# Altium footprint library LEDCube1.PcbLib: 17 footprints (part 1 of 2)
Each footprint in its own frame and in the unit in brackets; x right, y up, seen from the top. Pads: shape width x height; smd on the part's side, far side on the other; paste and mask are expansions set on the pad; w line width, h text height; cw(c..) or ccw(c..) is an arc to the next point about the centre after c.
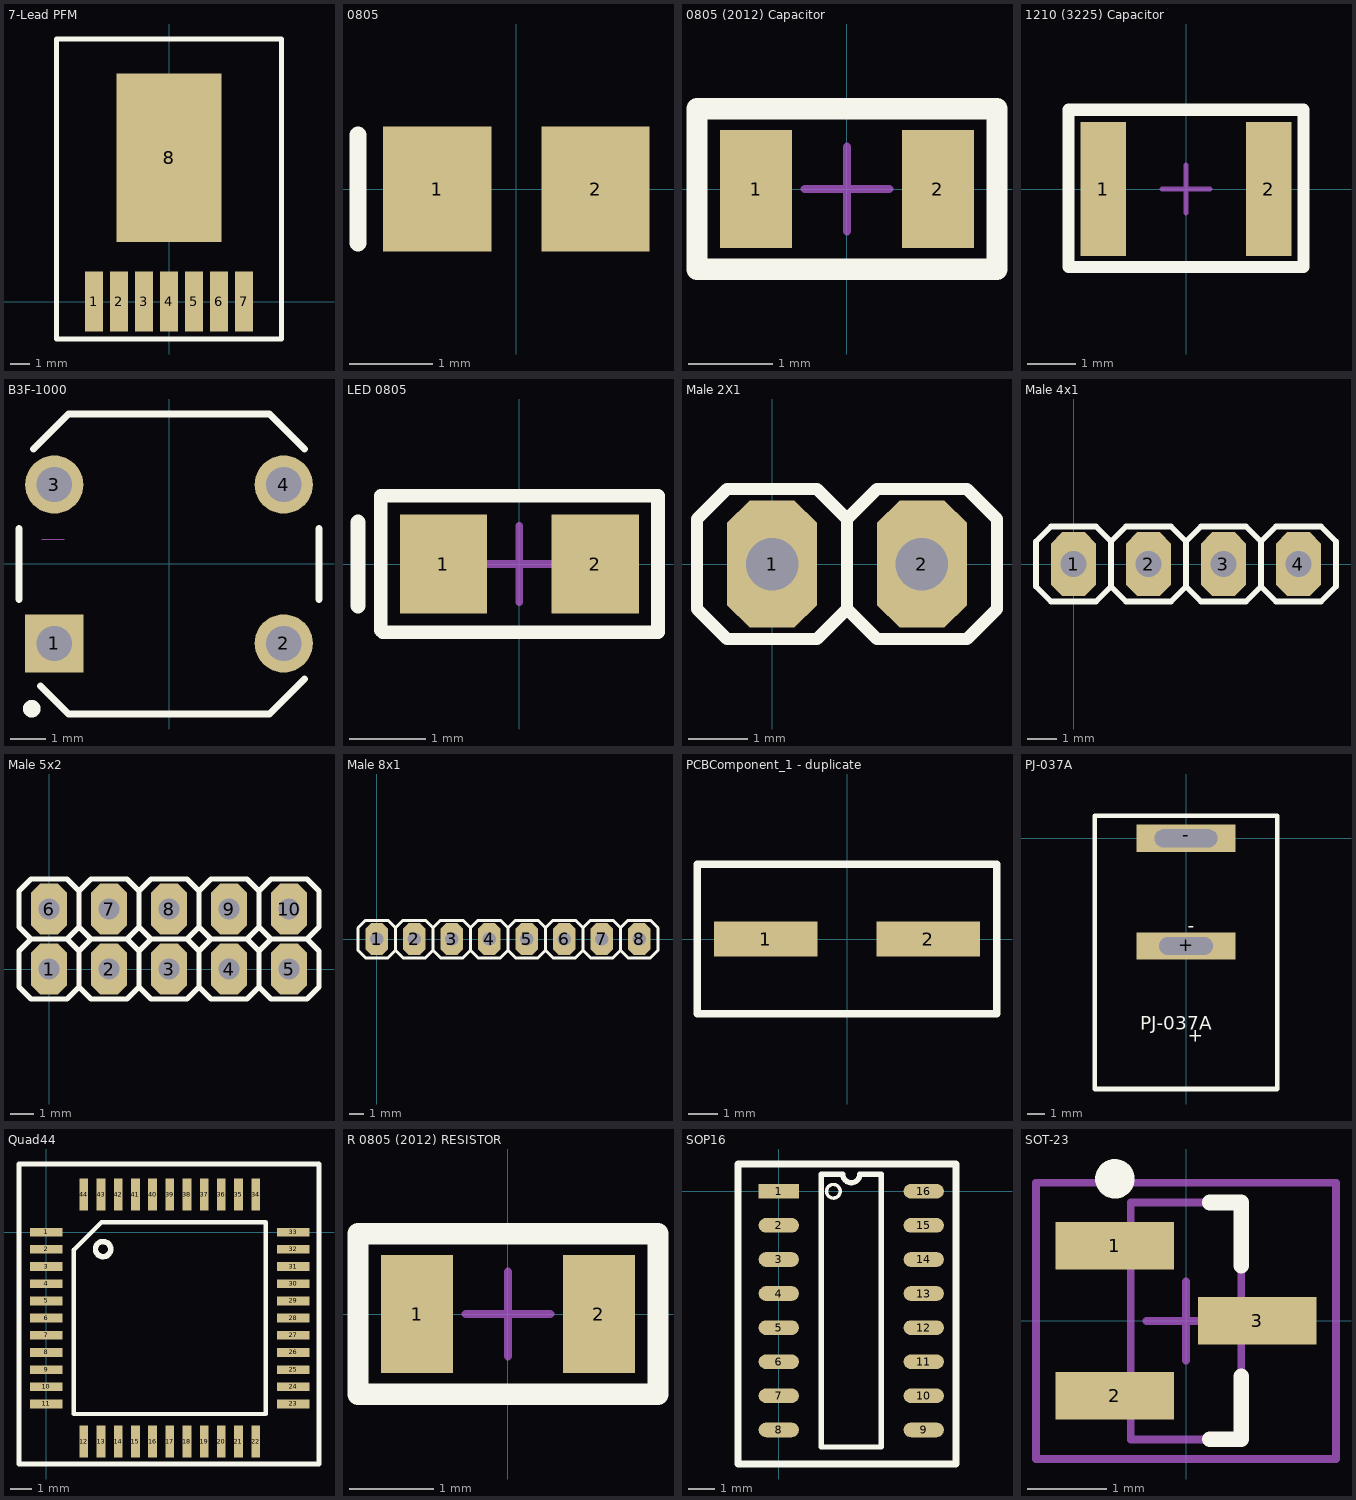
[diagram p0: the footprints below, top view; thin cyan lines are the x and y axes]

## 7-Lead PFM [mm]
pads (8):
  rect 0.89x3.06 smd: 1(-3.81,0) 2(-2.54,0) 3(-1.27,0) 4(0,0) 5(1.27,0) 6(2.54,0) 7(3.81,0)
  rect 5.35x8.54 smd: 8(0,7.305)
Top Overlay:
  lines w0.254: -5.715,-1.905 -5.715,13.335 5.715,13.335 5.715,-1.905 -5.715,-1.905
3D body: height 4.57, standoff 0, extent -5.08,-1.173 5.08,12.603

## 0805 [mm]
pads (2):
  rect 1.3x1.5 smd: 1(-0.95,0) 2(0.95,0)
Top Overlay:
  lines w0.2: -1.9,-0.65 -1.9,0.65

## 0805 (2012) Capacitor [mm]
pads (2):
  rect 0.85x1.4 smd: 1(-1.075,0) 2(1.075,0)
Top Overlay:
  lines w0.254: -1.775,-0.95 -1.775,0.95 1.775,0.95 1.775,-0.95 -1.775,-0.95
Mechanical 15:
  lines w0.1: -0.5,0 0.5,0 ; 0,-0.5 0,0.5 ; -1.775,-0.95 -1.775,0.95 1.775,0.95 1.775,-0.95 -1.775,-0.95
3D body: height 0.85, standoff 0, extent 0.813,-0.65 1.188,0.65
3D body: height 0.85, standoff 0, extent -1.1,-0.635 1.1,0.635
3D body: height 0.85, standoff 0, extent -1.188,-0.65 -0.813,0.65

## 1210 (3225) Capacitor [mm]
pads (2):
  rect 0.95x2.8 smd: 1(-1.725,0) 2(1.725,0)
Top Overlay:
  lines w0.254: -2.45,-1.625 -2.45,1.65 2.45,1.65 2.45,-1.625 -2.45,-1.625
Mechanical 15:
  lines w0.1: -0.5,0 0.5,0 ; 0,-0.5 0,0.5 ; -2.45,-1.65 2.45,-1.65 2.45,1.65 -2.45,1.65 -2.45,-1.65
3D body: height 1.81, standoff 0, extent 1.075,-1.425 1.825,1.425
3D body: height 1.81, standoff 0, extent -1.825,-1.425 -1.075,1.425
3D body: height 1.8, standoff 0, extent -1.8,-1.4 1.8,1.4

## B3F-1000 [mm]
pads (4):
  rect 1.65x1.65 hole 1: 1(-3.25,-2.25)
  round 1.65 hole 1: 2(3.25,-2.25) 3(-3.25,2.25) 4(3.25,2.25)
Top Overlay:
  circle w0.25: c-3.891,-4.1 r0.125
  lines w0.2: -4.25,-1 -4.25,1 ; -3.837,3.263 -2.85,4.25 2.85,4.25 3.837,3.263 ; -3.638,-3.458 -2.85,-4.25 2.85,-4.25 3.837,-3.263 ; 4.25,-1 4.25,1
Mechanical 1:
  lines w0: -3.6,0.7 -2.97,0.7
3D body: height 4.3, standoff -3.5, extent -3.814,-3 3.886,3

## LED 0805 [mm]
pads (2):
  rect 1.15x1.3 smd: 1(-1,0) 2(1,0)
Top Overlay:
  lines w0.178: -1.825,-0.875 -1.825,0.9 1.825,0.9 1.825,-0.9 -1.8,-0.9 -1.825,-0.875
  lines w0.2: -2.125,-0.55 -2.125,0.55
Mechanical 15:
  lines w0.1: -0.5,0 0.5,0 ; 0,-0.5 0,0.5 ; -1.825,-0.9 -1.825,0.9 1.825,0.9 1.825,-0.9 -1.825,-0.9
3D body: height 0.8, standoff 0, extent -0.7,-0.575 0.675,0.575
3D body: height 0.3, standoff 0, extent -1,-0.625 1,0.625

## Male 2X1 [mil]
pads (2):
  oct 60x85 hole 35: 1(0,0) 2(100,0)
Top Overlay:
  lines w8: -30,50 30,50 ; -30,50 -50,30 -50,-30 -30,-50 30,-50 50,-30 ; -30,50 30,50 ; 30,50 50,30 ; 50,-30 70,-50 130,-50 150,-30 ; 50,-30 50,30 ; 50,-30 50,30 ; 50,-30 50,30 ; 50,30 70,50 ; 70,50 130,50 ; 70,50 130,50 ; 130,50 150,30 ; 150,-30 150,30 ; 150,-30 150,30
3D body: height 460, standoff -120, extent 90,-10 110,10
3D body: height 460, standoff -120, extent -10,-10 10,10
3D body: height 100, standoff 0, extent 49.98,-50.02 150.02,50.02
3D body: height 100, standoff 0, extent -50.02,-50.02 50.02,50.02

## Male 4x1 [mil]
pads (4):
  oct 60x85 hole 35: 1(0,0) 2(100,0) 3(200,0) 4(300,0)
Top Overlay:
  lines w8: -30,50 30,50 ; -30,50 -50,30 -50,-30 -30,-50 30,-50 50,-30 ; -30,50 30,50 ; 30,50 50,30 ; 50,-30 70,-50 130,-50 150,-30 ; 50,-30 50,30 ; 50,-30 50,30 ; 50,-30 50,30 ; 50,30 70,50 ; 70,50 130,50 ; 70,50 130,50 ; 130,50 150,30 ; 150,-30 170,-50 230,-50 250,-30 ; 150,-30 150,30 ; 150,-30 150,30 ; 150,-30 150,30 ; 150,30 170,50 ; 170,50 230,50 ; 170,50 230,50 ; 230,50 250,30 ; 250,-30 270,-50 330,-50 350,-30 ; 250,-30 250,30 ; 250,-30 250,30 ; 250,-30 250,30 ; 250,30 270,50 ; 270,50 330,50 ; 270,50 330,50 ; 330,50 350,30 ; 350,-30 350,30 ; 350,-30 350,30
3D body: height 460, standoff -120, extent 290,-10 310,10
3D body: height 460, standoff -120, extent 190,-10 210,10
3D body: height 460, standoff -120, extent 90,-10 110,10
3D body: height 460, standoff -120, extent -10,-10 10,10
3D body: height 100, standoff 0, extent 249.98,-50.02 350.02,50.02
3D body: height 100, standoff 0, extent 149.98,-50.02 250.02,50.02
3D body: height 100, standoff 0, extent 49.98,-50.02 150.02,50.02
3D body: height 100, standoff 0, extent -50.02,-50.02 50.02,50.02

## Male 5x2 [mil]
pads (10):
  oct 60x85 hole 35: 1(0,0) 2(100,0) 3(200,0) 4(300,0) 5(400,0) 6(0,100) 7(100,100) 8(200,100) 9(300,100) 10(400,100)
Top Overlay:
  lines w8: -30,50 -50,70 -50,130 -30,150 ; -30,50 30,50 ; -30,50 30,50 ; -30,50 -50,30 -50,-30 -30,-50 30,-50 50,-30 ; -30,50 30,50 ; -30,150 30,150 ; -30,150 30,150 ; 30,50 50,70 ; 30,50 50,30 ; 30,150 50,130 ; 50,-30 70,-50 130,-50 150,-30 ; 50,-30 50,30 ; 50,-30 50,30 ; 50,-30 50,30 ; 50,30 70,50 ; 50,70 70,50 ; 50,70 50,130 ; 50,70 50,130 ; 50,70 50,130 ; 50,130 70,150 ; 70,50 130,50 ; 70,50 130,50 ; 70,50 130,50 ; 70,150 130,150 ; 70,150 130,150 ; 130,50 150,70 ; 130,50 150,30 ; 130,150 150,130 ; 150,-30 170,-50 230,-50 250,-30 ; 150,-30 150,30 ; 150,-30 150,30 ; 150,-30 150,30 ; 150,30 170,50 ; 150,70 170,50 ; 150,70 150,130 ; 150,70 150,130 ; 150,70 150,130 ; 150,130 170,150 ; 170,50 230,50 ; 170,50 230,50 ; 170,50 230,50 ; 170,150 230,150 ; 170,150 230,150 ; 230,50 250,70 ; 230,50 250,30 ; 230,150 250,130 ; 250,-30 270,-50 330,-50 350,-30 ; 250,-30 250,30 ; 250,-30 250,30 ; 250,-30 250,30 ; 250,30 270,50 ; 250,70 270,50 ; 250,70 250,130 ; 250,70 250,130 ; 250,70 250,130 ; 250,130 270,150 ; 270,50 330,50 ; 270,50 330,50 ; 270,50 330,50 ; 270,150 330,150 ; 270,150 330,150 ; 330,50 350,70 ; 330,50 350,30 ; 330,150 350,130 ; 350,-30 370,-50 430,-50 450,-30 ; 350,-30 350,30 ; 350,-30 350,30 ; 350,-30 350,30 ; 350,30 370,50 ; 350,70 370,50 ; 350,70 350,130 ; 350,70 350,130 ; 350,70 350,130 ; 350,130 370,150 ; 370,50 430,50 ; 370,50 430,50 ; 370,50 430,50 ; 370,150 430,150 ; 370,150 430,150 ; 430,50 450,70 ; 430,50 450,30 ; 430,150 450,130 ; 450,-30 450,30 ; 450,-30 450,30 ; 450,70 450,130 ; 450,70 450,130
3D body: height 460, standoff -120, extent 390,90 410,110
3D body: height 460, standoff -120, extent 290,90 310,110
3D body: height 460, standoff -120, extent 190,90 210,110
3D body: height 460, standoff -120, extent 90,90 110,110
3D body: height 460, standoff -120, extent -10,90 10,110
3D body: height 460, standoff -120, extent 390,-10 410,10
3D body: height 460, standoff -120, extent 290,-10 310,10
3D body: height 460, standoff -120, extent 190,-10 210,10
3D body: height 460, standoff -120, extent 90,-10 110,10
3D body: height 460, standoff -120, extent -10,-10 10,10
3D body: height 100, standoff 0, extent 349.98,49.98 450.02,150.02
3D body: height 100, standoff 0, extent 249.98,49.98 350.02,150.02
3D body: height 100, standoff 0, extent 149.98,49.98 250.02,150.02
3D body: height 100, standoff 0, extent 49.98,49.98 150.02,150.02
3D body: height 100, standoff 0, extent -50.02,49.98 50.02,150.02
3D body: height 100, standoff 0, extent 349.98,-50.02 450.02,50.02
3D body: height 100, standoff 0, extent 249.98,-50.02 350.02,50.02
3D body: height 100, standoff 0, extent 149.98,-50.02 250.02,50.02
3D body: height 100, standoff 0, extent 49.98,-50.02 150.02,50.02
3D body: height 100, standoff 0, extent -50.02,-50.02 50.02,50.02

## Male 8x1 [mil]
pads (8):
  oct 60x85 hole 35: 1(0,0) 2(100,0) 3(200,0) 4(300,0) 5(400,0) 6(500,0) 7(600,0) 8(700,0)
Top Overlay:
  lines w8: -30,50 30,50 ; -30,50 -50,30 -50,-30 -30,-50 30,-50 50,-30 ; -30,50 30,50 ; 30,50 50,30 ; 50,-30 70,-50 130,-50 150,-30 ; 50,-30 50,30 ; 50,-30 50,30 ; 50,-30 50,30 ; 50,30 70,50 ; 70,50 130,50 ; 70,50 130,50 ; 130,50 150,30 ; 150,-30 170,-50 230,-50 250,-30 ; 150,-30 150,30 ; 150,-30 150,30 ; 150,-30 150,30 ; 150,30 170,50 ; 170,50 230,50 ; 170,50 230,50 ; 230,50 250,30 ; 250,-30 270,-50 330,-50 350,-30 ; 250,-30 250,30 ; 250,-30 250,30 ; 250,-30 250,30 ; 250,30 270,50 ; 270,50 330,50 ; 270,50 330,50 ; 330,50 350,30 ; 350,-30 370,-50 430,-50 450,-30 ; 350,-30 350,30 ; 350,-30 350,30 ; 350,-30 350,30 ; 350,30 370,50 ; 370,50 430,50 ; 370,50 430,50 ; 430,50 450,30 ; 450,-30 470,-50 530,-50 550,-30 ; 450,-30 450,30 ; 450,-30 450,30 ; 450,-30 450,30 ; 450,30 470,50 ; 470,50 530,50 ; 470,50 530,50 ; 530,50 550,30 ; 550,-30 570,-50 630,-50 650,-30 ; 550,-30 550,30 ; 550,-30 550,30 ; 550,-30 550,30 ; 550,30 570,50 ; 570,50 630,50 ; 570,50 630,50 ; 630,50 650,30 ; 650,-30 670,-50 730,-50 750,-30 ; 650,-30 650,30 ; 650,-30 650,30 ; 650,-30 650,30 ; 650,30 670,50 ; 670,50 730,50 ; 670,50 730,50 ; 730,50 750,30 ; 750,-30 750,30 ; 750,-30 750,30
3D body: height 100, standoff 0, extent 649.98,-50.02 750.02,50.02
3D body: height 100, standoff 0, extent 549.98,-50.02 650.02,50.02
3D body: height 100, standoff 0, extent 449.98,-50.02 550.02,50.02
3D body: height 100, standoff 0, extent 349.98,-50.02 450.02,50.02
3D body: height 100, standoff 0, extent 249.98,-50.02 350.02,50.02
3D body: height 100, standoff 0, extent 149.98,-50.02 250.02,50.02
3D body: height 100, standoff 0, extent 49.98,-50.02 150.02,50.02
3D body: height 100, standoff 0, extent -50.02,-50.02 50.02,50.02
3D body: height 460, standoff -120, extent 690,-10 710,10
3D body: height 460, standoff -120, extent 590,-10 610,10
3D body: height 460, standoff -120, extent 490,-10 510,10
3D body: height 460, standoff -120, extent 390,-10 410,10
3D body: height 460, standoff -120, extent 290,-10 310,10
3D body: height 460, standoff -120, extent 190,-10 210,10
3D body: height 460, standoff -120, extent 90,-10 110,10
3D body: height 460, standoff -120, extent -10,-10 10,10

## PCBComponent_1 - duplicate [mm]
pads (2):
  rect 3.5x1.2 smd: 1(-2.75,0) 2(2.75,0)
Top Overlay:
  lines w0.254: -5.08,-2.54 -5.08,2.54 5.08,2.54 5.08,-2.54 -5.08,-2.54
3D body: height 2.3, standoff 0, extent -3.825,-2.083 3.775,2.017

## PJ-037A [mm]
pads (2):
  rect 5.5x1.524 hole 1 slot 3 at 0 deg: +(0,-6)
  rect 5.5x1.524 hole 1 slot 3.5 at 0 deg: -(0,0)
Top Overlay:
  lines w0.254: -5.08,-13.97 5.08,-13.97 5.08,1.27 -5.08,1.27 -5.08,-13.97
  text "PJ-037A" at -2.54,-10.668 h0.76
  text "-" at 0.102,-5.232 h0.76
  text "+" at 0.102,-11.328 h0.76
3D body: height 11, standoff -3.5, extent -4.504,-13.752 4.496,0.748

## Quad44 [mm]
pads (44):
  rect 1.5x0.406 smd: 1(0,0) 2(0,-0.8) 3(0,-1.6) 4(0,-2.4) 5(0,-3.2) 6(0,-4) 7(0,-4.8) 8(0,-5.6) 9(0,-6.4) 10(0,-7.2) 11(0,-8) 23(11.5,-8) 24(11.5,-7.2) 25(11.5,-6.4) 26(11.5,-5.6) 27(11.5,-4.8) 28(11.5,-4) 29(11.5,-3.2) 30(11.5,-2.4) 31(11.5,-1.6) 32(11.5,-0.8) 33(11.5,0)
  rect 0.406x1.5 smd: 12(1.75,-9.75) 13(2.55,-9.75) 14(3.35,-9.75) 15(4.15,-9.75) 16(4.95,-9.75) 17(5.75,-9.75) 18(6.55,-9.75) 19(7.35,-9.75) 20(8.15,-9.75) 21(8.95,-9.75) 22(9.75,-9.75) 34(9.75,1.75) 35(8.95,1.75) 36(8.15,1.75) 37(7.35,1.75) 38(6.55,1.75) 39(5.75,1.75) 40(4.95,1.75) 41(4.15,1.75) 42(3.35,1.75) 43(2.55,1.75) 44(1.75,1.75)
Top Overlay:
  circle w0.254: c2.644,-0.787 r0.353
  lines w0.2: 1.285,-8.465 1.285,-0.82 2.57,0.465 10.215,0.465 10.215,-8.465 1.285,-8.465
  lines w0.254: -1.27,-10.795 12.7,-10.795 12.7,3.175 -1.27,3.175 -1.27,-10.795
3D body: height 1, standoff -0.15, extent -0.272,-10 11.753,2.024

## R 0805 (2012) RESISTOR [mm]
pads (2):
  rect 0.85x1.4 smd: 1(-1.075,0) 2(1.075,0)
Top Overlay:
  lines w0.254: -1.775,-0.95 -1.775,0.95 1.775,0.95 1.775,-0.95 -1.775,-0.95
Mechanical 15:
  lines w0.1: -0.5,0 0.5,0 ; 0,-0.5 0,0.5 ; -1.775,-0.95 -1.775,0.95 1.775,0.95 1.775,-0.95 -1.775,-0.95
3D body: height 0.85, standoff 0, extent 0.813,-0.65 1.188,0.65
3D body: height 0.85, standoff 0, extent -1.1,-0.635 1.1,0.635
3D body: height 0.85, standoff 0, extent -1.188,-0.65 -0.813,0.65

## SOP16 [mm]
pads (16):
  rect 1.5x0.55 smd: 1(0,0)
  oval 1.5x0.55 smd: 2(0,-1.27) 3(0,-2.54) 4(0,-3.81) 5(0,-5.08) 6(0,-6.35) 7(0,-7.62) 8(0,-8.89) 9(5.4,-8.89) 10(5.4,-7.62) 11(5.4,-6.35) 12(5.4,-5.08) 13(5.4,-3.81) 14(5.4,-2.54) 15(5.4,-1.27) 16(5.4,0)
Top Overlay:
  circle w0.127: c2.032,0 r0.254
  lines w0.2: 1.585,-9.525 1.585,0.635 2.382,0.635 ccw(c2.7,0.635) 3.017,0.635 3.815,0.635 3.815,-9.525 1.585,-9.525
  lines w0.254: -1.524,-10.16 -1.524,1.016 6.604,1.016 6.604,-10.16 -1.016,-10.16 -1.524,-10.16
3D body: height 1.75, standoff 0, extent -0.307,-9.445 5.693,0.555

## SOT-23 [mm]
pads (3):
  rect 1.5x0.6 smd: 1(-0.9,0.95) 2(-0.9,-0.95) 3(0.9,0)
Top Overlay:
  circle w0.25: c-0.9,1.8 r0.125
  lines w0.2: 0.3,-1.5 0.7,-1.5 0.7,-0.7 ; 0.3,1.5 0.7,1.5 0.7,0.7
Mechanical 13:
  lines w0.1: -0.7,-1.5 -0.7,1.5 0.7,1.5 0.7,-1.5 -0.7,-1.5
Mechanical 15:
  lines w0.1: -0.5,0 0.5,0 ; 0,-0.5 0,0.5 ; -1.9,-1.75 -1.9,1.75 1.9,1.75 1.9,-1.75 -1.9,-1.75
3D body: height 1.1, standoff 0.05, extent -0.7,-1.5 0.7,1.5